# EAGLE library part CON-HE10-HARTING-12P (library Clean-Kong)
RS 670-3275 (Molex) 0.4€ RS 832-3610 (Amphenol) 0.64€ 3A
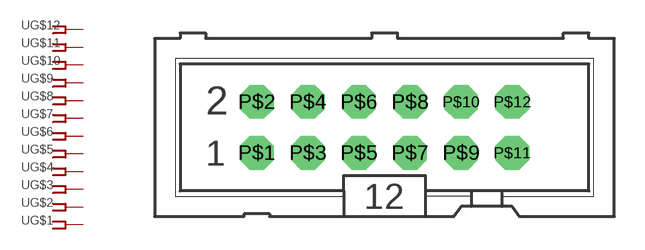
[diagram p24: symbol with the pads of ML12; footprint ML12]

Designator prefix -; gates G$1=FPIN G$2=FPIN G$3=FPIN G$4=FPIN G$5=FPIN G$6=FPIN G$7=FPIN G$8=FPIN G$9=FPIN G$10=FPIN G$11=FPIN G$12=FPIN

## CON-HE10-HARTING-12P  [ML12]
P$1  G$1:1  pas
P$2  G$2:1  pas
P$3  G$3:1  pas
P$4  G$4:1  pas
P$5  G$5:1  pas
P$6  G$6:1  pas
P$7  G$7:1  pas
P$8  G$8:1  pas
P$9  G$9:1  pas
P$10  G$10:1  pas
P$11  G$11:1  pas
P$12  G$12:1  pas

## Footprint ML12 (pad centres in mm)
drill 0.914 pad 1.676 octagon: P$1 0,-2.54; P$2 0,0; P$3 2.54,-2.54; P$4 2.54,0; P$5 5.08,-2.54; P$6 5.08,0; P$7 7.62,-2.54; P$8 7.62,0; P$9 10.16,-2.54; P$10 10.16,0; P$11 12.7,-2.54; P$12 12.7,0